# EAGLE library part TPS6122X (library trax_540)
Texas Instruments TPS6122x Low Input Voltage Step-up Converter Reference: http://focus.ti.com/docs/prod/folders/print/tps61220.html
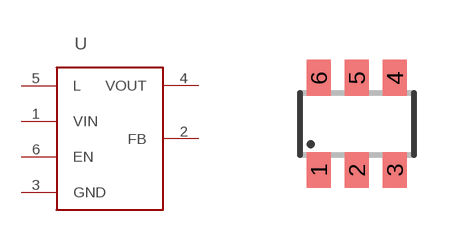
[diagram p0: symbol with the pads of SOT23-6; footprint SOT23-6]

Designator prefix -

## TPS6122XSOT-6  [SOT23-6]
1  VIN  pwr
2  FB
3  GND  pwr
4  VOUT  pwr
5  L
6  EN

## Footprint SOT23-6 (pad centres in mm)
Miscellaneous parts Created by Michael Shimniok www.bot-thoughts.com
smd 0.6 x 0.9: 1 -0.95,-1.15; 2 0,-1.15; 3 0.95,-1.15; 4 0.95,1.15; 5 0,1.15; 6 -0.95,1.15